# EAGLE library part LMP7702MAX_NOPB (library LMP7702MAX_NOPB)
Precision, CMOS Input, RRIO, Wide Supply Range Dual Amplifier Source: Datasheet <http://www.ti.com/lit/gpn/LMP7702>
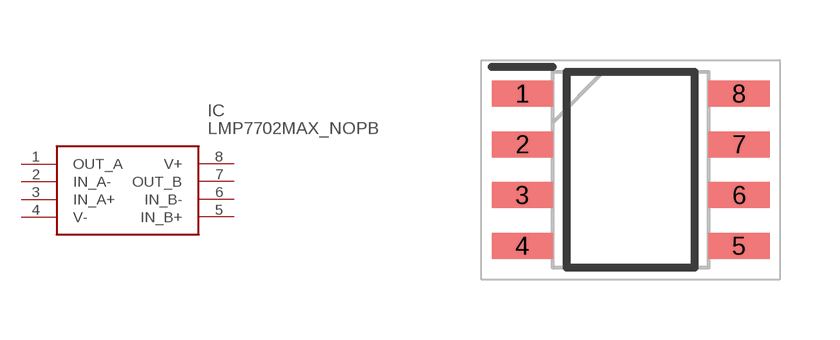
[diagram p0: symbol with the pads of SOIC127P600X175-8N; footprint SOIC127P600X175-8N]

Designator prefix IC

## LMP7702MAX_NOPB (Description: Precision, CMOS Input, RRIO, Wide Supply Range Dual Amplifier; Height: 1.75mm; Manufacturer_Name: Texas Instruments; Manufacturer_Part_Number: LMP7702MAX/NOPB; Mouser_Part_Number: 926-LMP7702MAX/NOPB; Mouser_Price-Stock: https://www.mouser.co.uk/ProductDetail/Texas-Instruments/LMP7702MAX-NOPB?qs=7lkVKPoqpbYtIAWRtzyoWQ%3D%3D)  [SOIC127P600X175-8N]
1  OUT_A
2  IN_A-
3  IN_A+
4  V-
5  IN_B+
6  IN_B-
7  OUT_B
8  V+

## Footprint SOIC127P600X175-8N (pad centres in mm)
D0008A
smd 1.528 x 0.65: 1 -2.711,1.905; 2 -2.711,0.635; 3 -2.711,-0.635; 4 -2.711,-1.905; 5 2.711,-1.905; 6 2.711,-0.635; 7 2.711,0.635; 8 2.711,1.905